# Altium schematic symbol library EDVDU_3.SCHLIB: 3 symbols
Pins are listed as number, name and electrical type; pins without a type are passive.

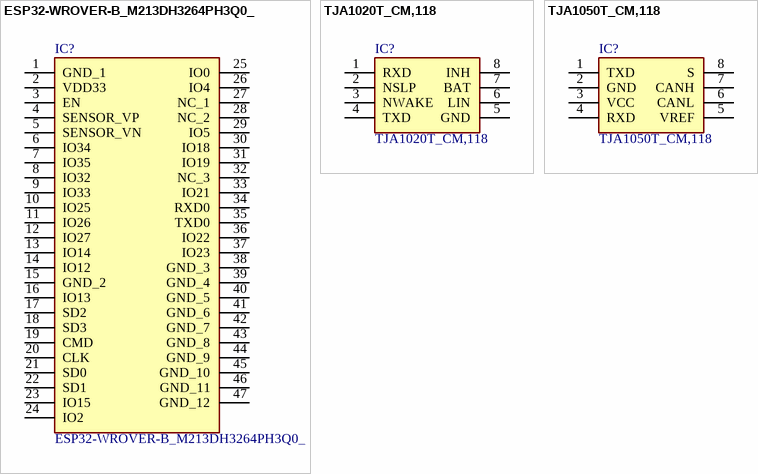
[diagram p0: symbols ESP32-WROVER-B_M213DH3264PH3Q0_ to TJA1050T_CM,118]

## ESP32-WROVER-B_M213DH3264PH3Q0_
designator IC?
Integrated Circuit; Manufacturer_Name: Espressif Systems; Manufacturer_Part_Number: ESP32-WROVER-B(M213DH3264PH3Q0); Datasheet Link: https://www.mouser.com/datasheet/2/891/esp32-wrover-b_datasheet_en-1384674.pdf; Height: 3.4mm; Mouser Part Number: 356-ESP32-WROVER-B; Mouser Price/Stock: https://www.mouser.co.uk/ProductDetail/Espressif-Systems/ESP32-WROVER-BM213DH3264PH3Q0?qs=W%2FMpXkg%252BdQ7xuL5m37Yhrg%3D%3D
footprint ESP32WROVERBM213DH3264PH3Q0
pins: 1 GND_1, 2 VDD33, 3 EN, 4 SENSOR_VP, 5 SENSOR_VN, 6 IO34, 7 IO35, 8 IO32, 9 IO33, 10 IO25, 11 IO26, 12 IO27, 13 IO14, 14 IO12, 15 GND_2, 16 IO13, 17 SD2, 18 SD3, 19 CMD, 20 CLK, 21 SD0, 22 SD1, 23 IO15, 24 IO2, 25 IO0, 26 IO4, 27 NC_1, 28 NC_2, 29 IO5, 30 IO18, 31 IO19, 32 NC_3, 33 IO21, 34 RXD0, 35 TXD0, 36 IO22, 37 IO23, 38 GND_3, 39 GND_4, 40 GND_5, 41 GND_6, 42 GND_7, 43 GND_8, 44 GND_9, 45 GND_10, 46 GND_11, 47 GND_12

## TJA1020T_CM,118
designator IC?
Integrated Circuit; Manufacturer_Name: NXP; Manufacturer_Part_Number: TJA1020T/CM,118; Datasheet Link: http://www.nxp.com/docs/en/data-sheet/TJA1020.pdf; Height: 1.75mm; Mouser Part Number: 771-TJA1020T/CM118; Mouser Price/Stock: https://www.mouser.co.uk/ProductDetail/NXP-Semiconductors/TJA1020T-CM118?qs=cbprxTG2Yq%252B9fBsR3gYBWA%3D%3D; Arrow Part Number: TJA1020T/CM,118; Arrow Price/Stock: https://www.arrow.com/en/products/tja1020tcm118/nxp-semiconductors?region=nac
footprint SOIC127P600X175-8N
pins: 1 RXD, 2 NSLP, 3 NWAKE, 4 TXD, 5 GND, 6 LIN, 7 BAT, 8 INH

## TJA1050T_CM,118
designator IC?
Integrated Circuit; Manufacturer_Name: NXP; Manufacturer_Part_Number: TJA1050T/CM,118; Datasheet Link: http://www.nxp.com/docs/en/data-sheet/TJA1050.pdf; Height: 1.75mm; Mouser Part Number: 771-TJA1050T/CM118; Mouser Price/Stock: https://www.mouser.co.uk/ProductDetail/NXP-Semiconductors/TJA1050T-CM118?qs=5XOdhvmYM0NFFspw0VP5sA%3D%3D; Arrow Part Number: TJA1050T/CM,118; Arrow Price/Stock: https://www.arrow.com/en/products/tja1050tcm118/nxp-semiconductors?region=nac
footprint SOIC127P600X175-8N
pins: 1 TXD, 2 GND, 3 VCC, 4 RXD, 5 VREF, 6 CANL, 7 CANH, 8 S